# EAGLE library part 686114183422 (library Eagle_FPC_CONNECTOR_AND_FFC_CAB (rev18c))
686114183422 WR-FPC 1.00mm SMT Horizontal Top Contact - Low Profile <http://katalog.we-online.de/media/images/v2/Family_WR-FPC_6861xx183422.jpg> Details see: http://katalog.we-online.de/en/em/FPC_1_00_SMT_ZIF_HORIZONTAL_TOP_CONTACT_LOW_PROFILE_6861xx183422 Created by Yingchun,shan 2016 (C) Wurth Elektronik
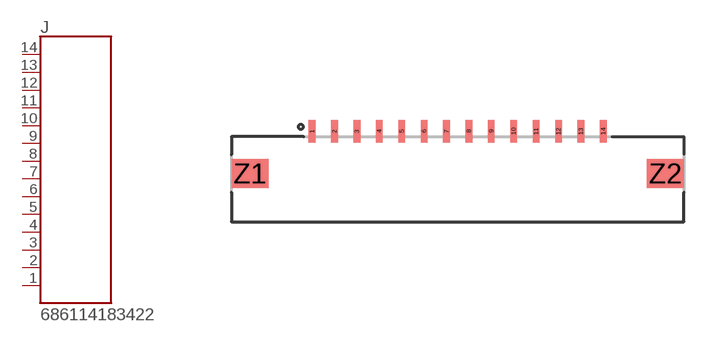
[diagram p151: symbol with the pads of 686114183422; footprint 686114183422]

Designator prefix J

## 686114183422  [686114183422]
1  14  pas
2  13  pas
3  12  pas
4  11  pas
5  10  pas
6  9  pas
7  8  pas
8  7  pas
9  6  pas
10  5  pas
11  4  pas
12  3  pas
13  2  pas
14  1  pas

## Footprint 686114183422 (pad centres in mm)
smd 0.3 x 1: 1 -6.5,1.9; 2 -5.5,1.9; 3 -4.5,1.9; 4 -3.5,1.9; 5 -2.5,1.9; 6 -1.5,1.9; 7 -0.5,1.9; 8 0.5,1.9; 9 1.5,1.9; 10 2.5,1.9; 11 3.5,1.9; 12 4.5,1.9; 13 5.5,1.9; 14 6.5,1.9
smd 1.65 x 1.3: Z1 -9.275,0; Z2 9.275,0